# Altium footprint library Motorized_Blinds_PcbLib.PcbLib: 36 footprints (part 1 of 3)
Each footprint in its own frame and in the unit in brackets; x right, y up, seen from the top. Pads: shape width x height; smd on the part's side, far side on the other; paste and mask are expansions set on the pad; w line width, h text height; cw(c..) or ccw(c..) is an arc to the next point about the centre after c.
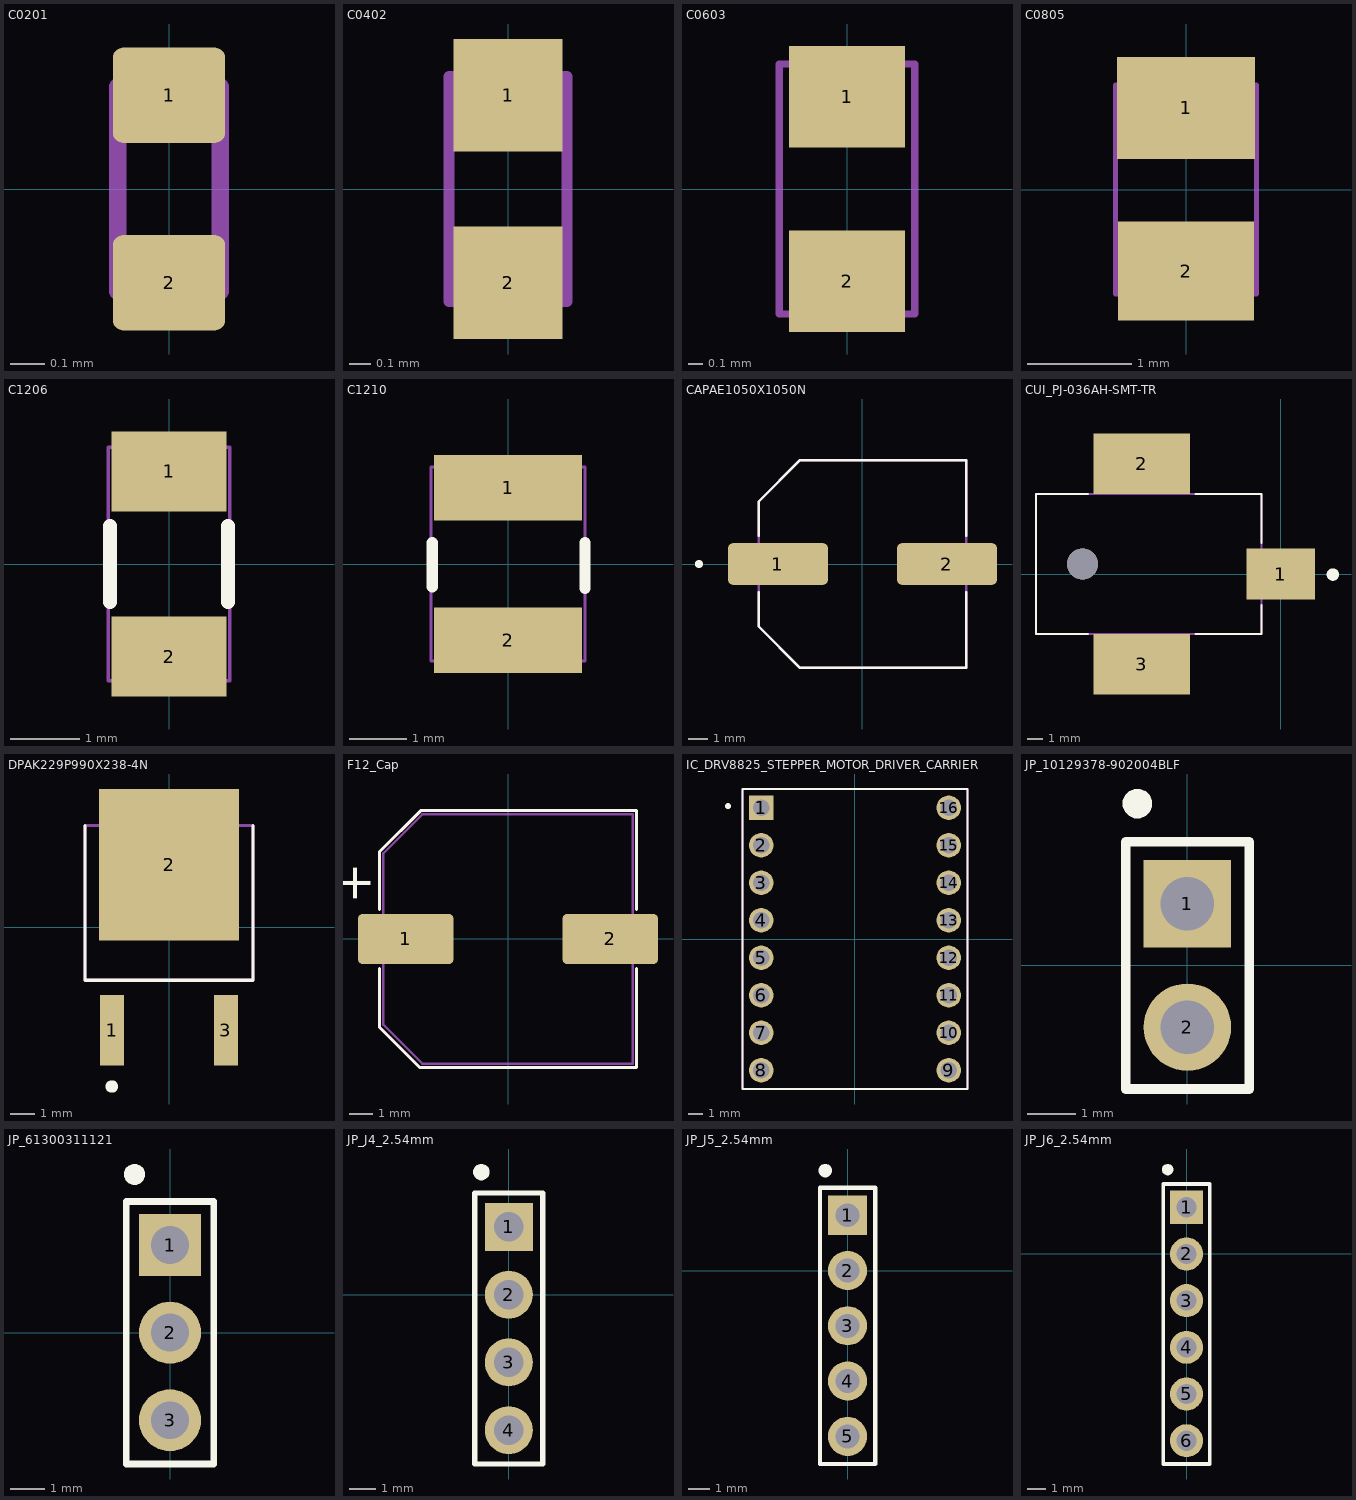
[diagram p0: the footprints below, top view; thin cyan lines are the x and y axes]

## C0201 [mm]
height 0.33
pads (2):
  rrect22% 0.33x0.28 smd: 1(0,0.275) 2(0,-0.275)
Mechanical 3:
  lines w0.051: -0.15,-0.3 0.15,-0.3 0.15,0.3 -0.15,0.3 -0.15,-0.3
  text ".Designator" at 0.39,-0.432 h0.44
Mechanical 20:
  lines w0.025: -0.15,-0.3 -0.15,0.3 0.15,0.3 0.15,-0.3 -0.15,-0.3
3D body "User Library-CapacitorCap0201.STEP": height 0.29, standoff -0.01, extent -0.15,-0.3 0.15,0.3

## C0402 [mm]
height 0.56
pads (2):
  rect 0.51x0.525 smd: 1(0,0.437) 2(0,-0.437)
Mechanical 3:
  lines w0.051: -0.275,-0.525 -0.275,0.525 0.275,0.525 0.275,-0.525 -0.275,-0.525
  text ".Designator" at 0.459,-0.643 h0.53
Mechanical 20:
  lines w0.025: -0.275,-0.525 0.275,-0.525 0.275,0.525 -0.275,0.525 -0.275,-0.525
3D body "c0402_capc1005x55.STEP": height 0.55, standoff 0, extent -0.275,-0.525 0.275,0.525

## C0603 [mm]
height 0.9
pads (2):
  rect 0.81x0.71 smd: 1(0,0.645) 2(0,-0.645)
Mechanical 3:
  lines w0.051: -0.475,-0.875 -0.475,0.875 0.475,0.875 0.475,-0.875 -0.475,-0.875
  text ".Designator" at 0.65,-0.95 h0.77
Mechanical 20:
  lines w0.025: -0.475,-0.875 -0.475,0.875 0.475,0.875 0.475,-0.875 -0.475,-0.875
3D body "c0603_capc1608x90.STEP": height 0.9, standoff 0, extent -0.45,-0.85 0.45,0.85

## C0805 [mm]
height 1.4
pads (2):
  rect 1.32x0.98 smd: 1(0,0.78)
  rect 1.3x0.95 smd: 2(0,-0.78)
Mechanical 3:
  lines w0.051: -0.675,-1 -0.675,1 0.675,1 0.675,-1 -0.675,-1
  text ".Designator" at 0.762,-1.143 h0.84
Mechanical 20:
  lines w0.025: -0.675,-1 -0.675,1 0.675,1 0.675,-1 -0.675,-1
3D body "User Library-CAPC2013X10.STEP": height 1, standoff 0, extent -0.625,-1 0.625,1

## C1206 [mm]
height 1.78
pads (2):
  rect 1.65x1.145 smd: 1(0,1.33) 2(0,-1.33)
Top Overlay:
  lines w0.2: -0.85,-0.55 -0.85,0.55 ; 0.85,-0.55 0.85,0.55
Mechanical 3:
  lines w0.051: -0.875,-1.675 0.875,-1.675 0.875,1.675 -0.875,1.675 -0.875,-1.675
  text ".Designator" at 0.65,-1.9 h0.77
Mechanical 20:
  lines w0.025: -0.875,-1.675 0.875,-1.675 0.875,1.675 -0.875,1.675 -0.875,-1.675
3D body "c1206_capc3216x180.STEP": height 1.8, standoff 0, extent -0.9,-1.7 0.9,1.7

## C1210 [mm]
height 2.29
pads (2):
  rect 2.59x1.145 smd: 1(0,1.335) 2(0,-1.335)
Top Overlay:
  lines w0.2: -1.325,-0.4 -1.325,0.375 ; 1.35,-0.425 1.35,0.375
Mechanical 3:
  lines w0.051: -1.35,-1.7 1.35,-1.7 1.35,1.7 -1.35,1.7 -1.35,-1.7
  text ".Designator" at 0.7,-1.8 h0.77
Mechanical 20:
  lines w0.025: -1.35,-1.7 1.35,-1.7 1.35,1.7 -1.35,1.7 -1.35,-1.7
3D body "User Library-C-1210-2_5x2_5x3_2.STEP": height 2.5, standoff 0, extent -1.25,-1.6 1.25,1.6

## CAPAE1050X1050N [mm]
pads (2):
  rrect25% 5.06x2.11 smd: 1(-4.275,0) 2(4.275,0)
Top Overlay:
  circle w0.2: c-8.27,0 r0.1
  lines w0.127: -5.25,-1.44 -5.25,-3.15 -3.15,-5.25 5.25,-5.25 5.25,-1.44 ; -5.25,1.44 -5.25,3.15 -3.15,5.25 5.25,5.25 5.25,1.44
Mechanical 3:
  lines w0.127: -5.25,-3.15 -5.25,3.15 -3.15,5.25 5.25,5.25 5.25,-5.25 -3.15,-5.25 -5.25,-3.15

## CUI_PJ-036AH-SMT-TR [mm]
pads (4):
  rect 4.4x3.3 smd: 1(0,0)
  rect 6.2x3.9 smd: 2(-8.95,7.1) 3(-8.95,-5.8)
  round 2 hole 2 unplated: ""(-12.75,0.65)
Top Overlay:
  circle w0.4: c3.358,-0.03 r0.2
  lines w0.127: -12.4,-3.85 -15.75,-3.85 -15.75,5.15 -12.4,5.15 ; -5.5,-3.85 -1.25,-3.85 -1.25,-2 ; -5.5,5.15 -1.25,5.15 -1.25,2
Mechanical 3:
  lines w0.127: -15.75,-3.85 -15.75,5.15 -1.25,5.15 -1.25,-3.85 -15.75,-3.85

## DPAK229P990X238-4N [mm]
pads (3):
  rect 0.97x2.83 smd: 1(-2.29,-4.14) 3(2.29,-4.14)
  rect 5.63x6.09 smd paste-4: 2(0,2.51)
Top Overlay:
  circle w0.3: c-2.3,-6.4 r0.1
  lines w0.127: -3.37,4.093 -3.37,-2.128 3.37,-2.128 3.37,4.093
Top Paste:
  region: 2.535,-0.25 1.225,-0.25 1.225,1.21 2.535,1.21
  region: 0.655,-0.25 -0.655,-0.25 -0.655,1.21 0.655,1.21
  region: -1.225,-0.25 -2.535,-0.25 -2.535,1.21 -1.225,1.21
  region: 2.535,3.81 1.225,3.81 1.225,5.27 2.535,5.27
  region: 0.655,3.81 -0.655,3.81 -0.655,5.27 0.655,5.27
  region: -1.225,3.81 -2.535,3.81 -2.535,5.27 -1.225,5.27
  region: 2.535,1.78 1.225,1.78 1.225,3.24 2.535,3.24
  region: -1.225,1.78 -2.535,1.78 -2.535,3.24 -1.225,3.24
  region: 0.655,1.78 -0.655,1.78 -0.655,3.24 0.655,3.24
Mechanical 3:
  lines w0.127: -3.37,-2.128 -3.37,4.093 3.37,4.093 3.37,-2.128 -3.37,-2.128

## F12_Cap [mm] "CAP ALUM POLY F12"
height 5
pads (2):
  rrect19% 4.02x2.12 smd: 1(-4.3,0) 2(4.3,0)
Top Overlay:
  lines w0.127: -5.398,-1.25 -5.398,-3.727 -3.723,-5.4 5.413,-5.4 5.413,-1.25 ; -5.399,1.25 -5.399,3.677 -3.673,5.399 5.403,5.399 5.403,1.25
  text "+" at -5.772,1.486 h1.5
Mechanical 3:
  lines w0.102: -5.25,-3.601 -3.601,-5.25 5.25,-5.25 5.25,5.25 -3.6,5.25 -5.25,3.6 -5.25,-3.601
  text ".Designator" at -1.778,-0.254 h0.77
3D body "CAPAE1030X1270D1100DD460L320.STEP": height 12.7, standoff 0, extent -5.5,-5.15 5.5,5.15

## IC_DRV8825_STEPPER_MOTOR_DRIVER_CARRIER [mm]
pads (16):
  rect 1.65x1.65 hole 1.1: 1(-6.35,8.89)
  round 1.65 hole 1.1: 2(-6.35,6.35) 3(-6.35,3.81) 4(-6.35,1.27) 5(-6.35,-1.27) 6(-6.35,-3.81) 7(-6.35,-6.35) 8(-6.35,-8.89) 9(6.35,-8.89) 10(6.35,-6.35) 11(6.35,-3.81) 12(6.35,-1.27) 13(6.35,1.27) 14(6.35,3.81) 15(6.35,6.35) 16(6.35,8.89)
Top Overlay:
  circle w0.2: c-8.6,9 r0.1
  lines w0.127: -7.62,-10.16 7.62,-10.16 7.62,10.16 -7.62,10.16 -7.62,-10.16
Mechanical 3:
  lines w0.127: -7.62,-10.16 -7.62,10.16 7.62,10.16 7.62,-10.16 -7.62,-10.16

## JP_10129378-902004BLF [mm]
height 8.38
pads (2):
  rect 1.8x1.8 hole 1.1: 1(0,1.27)
  round 1.8 hole 1.1: 2(0,-1.27)
Top Overlay:
  region: -1.028,3.025 -1.088,3.025 -1.198,3.071 -1.283,3.155 -1.328,3.265 -1.328,3.385 -1.283,3.495 -1.198,3.579 -1.088,3.625 -1.028,3.625 -0.969,3.625 -0.858,3.579 -0.774,3.495 -0.728,3.385 -0.728,3.265 -0.774,3.155 -0.858,3.071 -0.969,3.025
  lines w0.2: -1.27,-2.54 1.27,-2.54 1.27,2.54 -1.27,2.54 -1.27,-2.54
Mechanical 3:
  lines w0.051: -1.27,-2.54 1.27,-2.54 1.27,2.54 -1.27,2.54 -1.27,-2.54
  text ".Designator" at 0,0 h0.44
3D body "p10129378-x02004blf.stp": height 10.63, standoff -2.28, extent -1.209,-2.54 1.206,2.54

## JP_61300311121 [mm] "CONN HEADER VERT 3POS 2.54MM"
height 8.38
pads (3):
  rect 1.8x1.8 hole 1.1: 1(0,2.54)
  round 1.8 hole 1.1: 2(0,0) 3(0,-2.54)
Top Overlay:
  region: -1.028,4.295 -1.088,4.295 -1.198,4.341 -1.283,4.425 -1.328,4.535 -1.328,4.655 -1.283,4.765 -1.198,4.849 -1.088,4.895 -1.028,4.895 -0.969,4.895 -0.858,4.849 -0.774,4.765 -0.728,4.655 -0.728,4.535 -0.774,4.425 -0.858,4.341 -0.969,4.295
  lines w0.2: -1.27,-3.81 -1.27,3.81 1.27,3.81 1.27,-3.81 -1.27,-3.81
Mechanical 3:
  lines w0.051: -1.27,-3.81 -1.27,3.81 1.27,3.81 1.27,-3.81 -1.27,-3.81
  text ".Designator" at 0,0 h0.44
3D body "61300311121_Download_STP_61300311121_rev1.stp": height 8.55, standoff -2.99, extent -1.27,-3.81 1.27,3.81

## JP_J4_2.54mm [mm] "CONN HEADER VERT 4POS 2.54MM"
height 8.38
pads (4):
  rect 1.8x1.8 hole 1.1: 1(0,2.54)
  round 1.8 hole 1.1: 2(0,0) 3(0,-2.54) 4(0,-5.08)
Top Overlay:
  region: -1.028,4.295 -1.088,4.295 -1.198,4.341 -1.283,4.425 -1.328,4.535 -1.328,4.655 -1.283,4.765 -1.198,4.849 -1.088,4.895 -1.028,4.895 -0.969,4.895 -0.858,4.849 -0.774,4.765 -0.728,4.655 -0.728,4.535 -0.774,4.425 -0.858,4.341 -0.969,4.295
  lines w0.2: -1.27,-6.35 1.27,-6.35 1.27,3.81 -1.27,3.81 -1.27,-6.35
Mechanical 3:
  lines w0.051: -1.27,-6.35 1.27,-6.35 1.27,3.81 -1.27,3.81 -1.27,-6.35
  text ".Designator" at 0,-1.27 h0.44

## JP_J5_2.54mm [mm] "CONN HEADER VERT 5POS 2.54MM"
height 8.38
pads (5):
  rect 1.8x1.8 hole 1.1: 1(0,2.54)
  round 1.8 hole 1.1: 2(0,0) 3(0,-2.54) 4(0,-5.08) 5(0,-7.62)
Top Overlay:
  region: -1.028,4.295 -1.088,4.295 -1.198,4.341 -1.283,4.425 -1.328,4.535 -1.328,4.655 -1.283,4.765 -1.198,4.849 -1.088,4.895 -1.028,4.895 -0.969,4.895 -0.858,4.849 -0.774,4.765 -0.728,4.655 -0.728,4.535 -0.774,4.425 -0.858,4.341 -0.969,4.295
  lines w0.2: -1.27,-8.89 1.27,-8.89 1.27,3.81 -1.27,3.81 -1.27,-8.89
Mechanical 3:
  lines w0.051: -1.27,-8.89 -1.27,3.81 1.27,3.81 1.27,-8.89 -1.27,-8.89
  text ".Designator" at 0,-1.27 h0.44

## JP_J6_2.54mm [mm] "CONN HEADER VERT 6POS 2.54MM"
height 8.38
pads (6):
  rect 1.8x1.8 hole 1.1: 1(0,2.54)
  round 1.8 hole 1.1: 2(0,0) 3(0,-2.54) 4(0,-5.08) 5(0,-7.62) 6(0,-10.16)
Top Overlay:
  region: -1.028,4.295 -1.088,4.295 -1.198,4.341 -1.283,4.425 -1.328,4.535 -1.328,4.655 -1.283,4.765 -1.198,4.849 -1.088,4.895 -1.028,4.895 -0.969,4.895 -0.858,4.849 -0.774,4.765 -0.728,4.655 -0.728,4.535 -0.774,4.425 -0.858,4.341 -0.969,4.295
  lines w0.2: -1.27,-11.43 1.27,-11.43 1.27,3.81 -1.27,3.81 -1.27,-11.43
Mechanical 3:
  lines w0.051: -1.27,-11.43 -1.27,3.81 1.27,3.81 1.27,-11.43 -1.27,-11.43
  text ".Designator" at 0,-1.27 h0.44